# Altium integrated library GRM31CR61E226KE15L.IntLib: 1 symbol
Pins are listed as number, name and electrical type; pins without a type are passive.

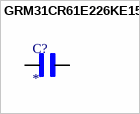
[diagram p0: symbol GRM31CR61E226KE15L]

## GRM31CR61E226KE15L
designator C?
CAPACITOR, 1206, X5R, 25V, 22UF; Dielectric Characteristic:X5R; Capacitance:22µF; Capacitance Tolerance:± 10%; Voltage Rating:25V; Series:GRM Hi-Cap; Capacitor Case Style:1206; No. of Pins:2; Capacitor Mounting:SMD; SVHC:No SVHC ;RoHS Compliant: Yes; MP: altium_native_batch; Package: None; Price: None; Value: *; Availability: Unavailable
footprint CAPC3216X125N
pins: 1, 2